# Altium schematic symbol library BUK6Y10.SchLib: 1 symbol
Pins are listed as number, name and electrical type; pins without a type are passive.

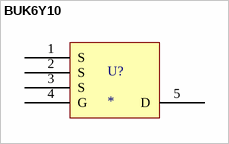
[diagram p0: symbol BUK6Y10]

## BUK6Y10
designator U?
BUK6Y10-30PX
footprint TO127P600X120-5N
pins: 1 S, 2 S, 3 S, 4 G, 5 D